# Altium footprint library WatcherJet.PcbLib: 36 footprints (part 3 of 3)
Each footprint in its own frame and in the unit in brackets; x right, y up, seen from the top. Pads: shape width x height; smd on the part's side, far side on the other; paste and mask are expansions set on the pad; w line width, h text height; cw(c..) or ccw(c..) is an arc to the next point about the centre after c.
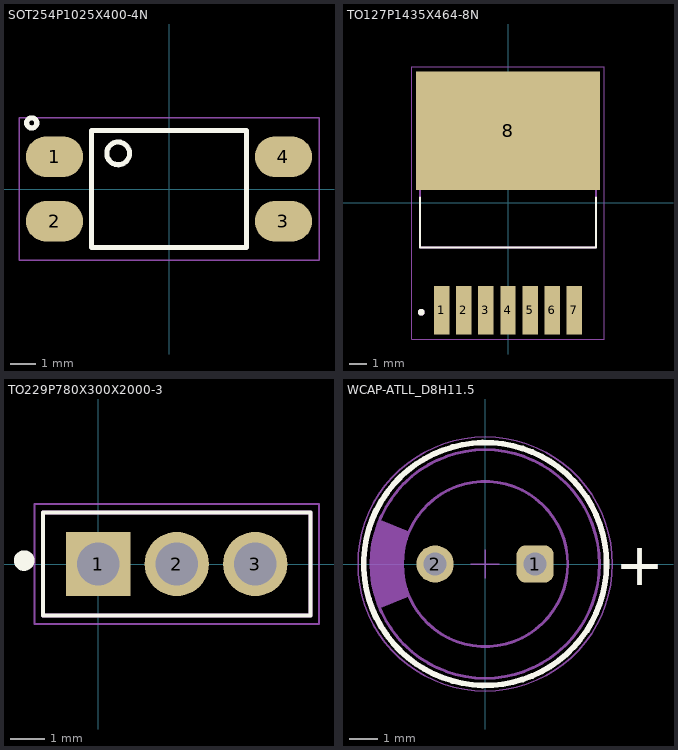
[diagram p2: the footprints below, top view; thin cyan lines are the x and y axes]

## SOT254P1025X400-4N [mm]
pads (4):
  oval 2.25x1.6 smd: 1(-4.5,1.27) 2(-4.5,-1.27) 3(4.5,-1.27) 4(4.5,1.27)
Top Overlay:
  circle w0.2: c-5.4,2.6 r0.2
  circle w0.2: c-2,1.4 r0.447
  lines w0.2: -3.05,-2.3 -3.05,2.3 3.05,2.3 3.05,-2.3 -3.05,-2.3
Mechanical 15:
  lines w0.05: -5.9,-2.8 -5.9,2.8 5.9,2.8 5.9,-2.8 -5.9,-2.8
3D body "step_temp.STEP": height 4, standoff 0, extent -4.875,-2.29 4.875,2.29

## TO127P1435X464-8N [mm]
pads (8):
  rect 0.89x2.79 smd: 1(-3.81,-6.19) 2(-2.54,-6.19) 3(-1.27,-6.19) 4(0,-6.19) 5(1.27,-6.19) 6(2.54,-6.19) 7(3.81,-6.19)
  rect 10.58x6.84 smd: 8(0,4.16)
Top Overlay:
  circle w0.2: c-5,-6.3 r0.1
  lines w0.127: -5.08,0.3 -5.08,-2.575 5.08,-2.575 5.08,0.3
Top Paste:
  region: 5.03,1.495 3.77,1.495 3.77,3.405 5.03,3.405
  region: 5.03,4.915 3.77,4.915 3.77,6.825 5.03,6.825
  region: 3.27,4.915 2.01,4.915 2.01,6.825 3.27,6.825
  region: 3.27,1.495 2.01,1.495 2.01,3.405 3.27,3.405
  region: -3.77,1.495 -5.03,1.495 -5.03,3.405 -3.77,3.405
  region: -2.01,1.495 -3.27,1.495 -3.27,3.405 -2.01,3.405
  region: -3.77,4.915 -5.03,4.915 -5.03,6.825 -3.77,6.825
  region: -2.01,4.915 -3.27,4.915 -3.27,6.825 -2.01,6.825
  region: 1.51,1.495 0.25,1.495 0.25,3.405 1.51,3.405
  region: 1.51,4.915 0.25,4.915 0.25,6.825 1.51,6.825
  region: -0.25,1.495 -1.51,1.495 -1.51,3.405 -0.25,3.405
  region: -0.25,4.915 -1.51,4.915 -1.51,6.825 -0.25,6.825
Mechanical 13:
  circle w0.2: c-5,-6.3 r0.1
  lines w0.127: -5.08,-2.575 -5.08,6.065 5.08,6.065 5.08,-2.575 -5.08,-2.575
Mechanical 15:
  lines w0.05: -5.54,-7.84 -5.54,7.84 5.54,7.84 5.54,-7.84 -5.54,-7.84
3D body "step_temp.STEP": height 4.65, standoff -0.3, extent -5.048,-7.62 5.048,7.62

## TO229P780X300X2000-3 [mm]
pads (3):
  rect 1.875x1.875 / inner round 1.875 / far side rect 1.875x1.875 hole 1.25: 1(0,0)
  round 1.875 hole 1.25: 2(2.29,0) 3(4.58,0)
Top Overlay:
  circle w0.3: c-2.16,0.1 r0.15
  lines w0.127: -1.61,-1.5 6.19,-1.5 6.19,1.5 -1.61,1.5 -1.61,-1.5
Mechanical 13:
  lines w0.127: -1.61,-1.5 -1.61,1.5 6.19,1.5 6.19,-1.5 -1.61,-1.5
Mechanical 15:
  lines w0.05: -1.86,-1.75 -1.86,1.75 6.44,1.75 6.44,-1.75 -1.86,-1.75
3D body "step_temp.STEP": height 13.2, standoff -13.85, extent -3.8,-1.515 3.8,1.135

## WCAP-ATLL_D8H11.5 [mm] "Aluminum Electrolytic Capacitors, 8x11.5mm"
height 11.5
pads (2):
  rrect50% 1.3x1.3 hole 0.8: 1(1.75,0)
  round 1.3 hole 0.8: 2(-1.75,0)
Top Overlay:
  circle w0.2: c0,0 r4.25
  text "+" at 4.55,-0.75 h1.5
Top 3D Body:
  circle w0.1: c0,0 r4
  circle w0.1: c0,0 r2.89
  region: -3.685,-1.557 -3.762,-1.372 -3.881,-0.99 -3.96,-0.598 -4,-0.2 -4,0.2 -3.96,0.598 -3.881,0.99 -3.762,1.372 -3.685,1.557 -2.662,1.125 -2.662,1.124 -2.715,0.99 -2.8,0.714 -2.858,0.431 -2.886,0.144 -2.886,-0.144 -2.858,-0.431 -2.8,-0.714 -2.715,-0.99 -2.662,-1.124 -2.662,-1.125
Top Courtyard:
  circle w0.05: c0,0 r4.45
  lines w0.05: -0.5,0 0.5,0 ; 0,-0.5 0,0.5
Top Designator:
  text ".Designator" at -7.498,-0.5 h1.5
Top Component Outline:
  circle w0.1: c0,0 r4
  circle w0.1: c0,0 r2.89
  region: -3.685,-1.557 -3.762,-1.372 -3.881,-0.99 -3.96,-0.598 -4,-0.2 -4,0.2 -3.96,0.598 -3.881,0.99 -3.762,1.372 -3.685,1.557 -2.662,1.125 -2.662,1.124 -2.715,0.99 -2.8,0.714 -2.858,0.431 -2.886,0.144 -2.886,-0.144 -2.858,-0.431 -2.8,-0.714 -2.715,-0.99 -2.662,-1.124 -2.662,-1.125
3D body "8x11.5x3.5x0.5.stp": height 11.81, standoff -19.91, extent -3.99,-4 4,3.999